# Altium footprint library AMP Footprints.PcbLib: 903 footprints (part 5 of 58)
Each footprint in its own frame and in the unit in brackets; x right, y up, seen from the top. Pads: shape width x height; smd on the part's side, far side on the other; paste and mask are expansions set on the pad; w line width, h text height; cw(c..) or ccw(c..) is an arc to the next point about the centre after c.
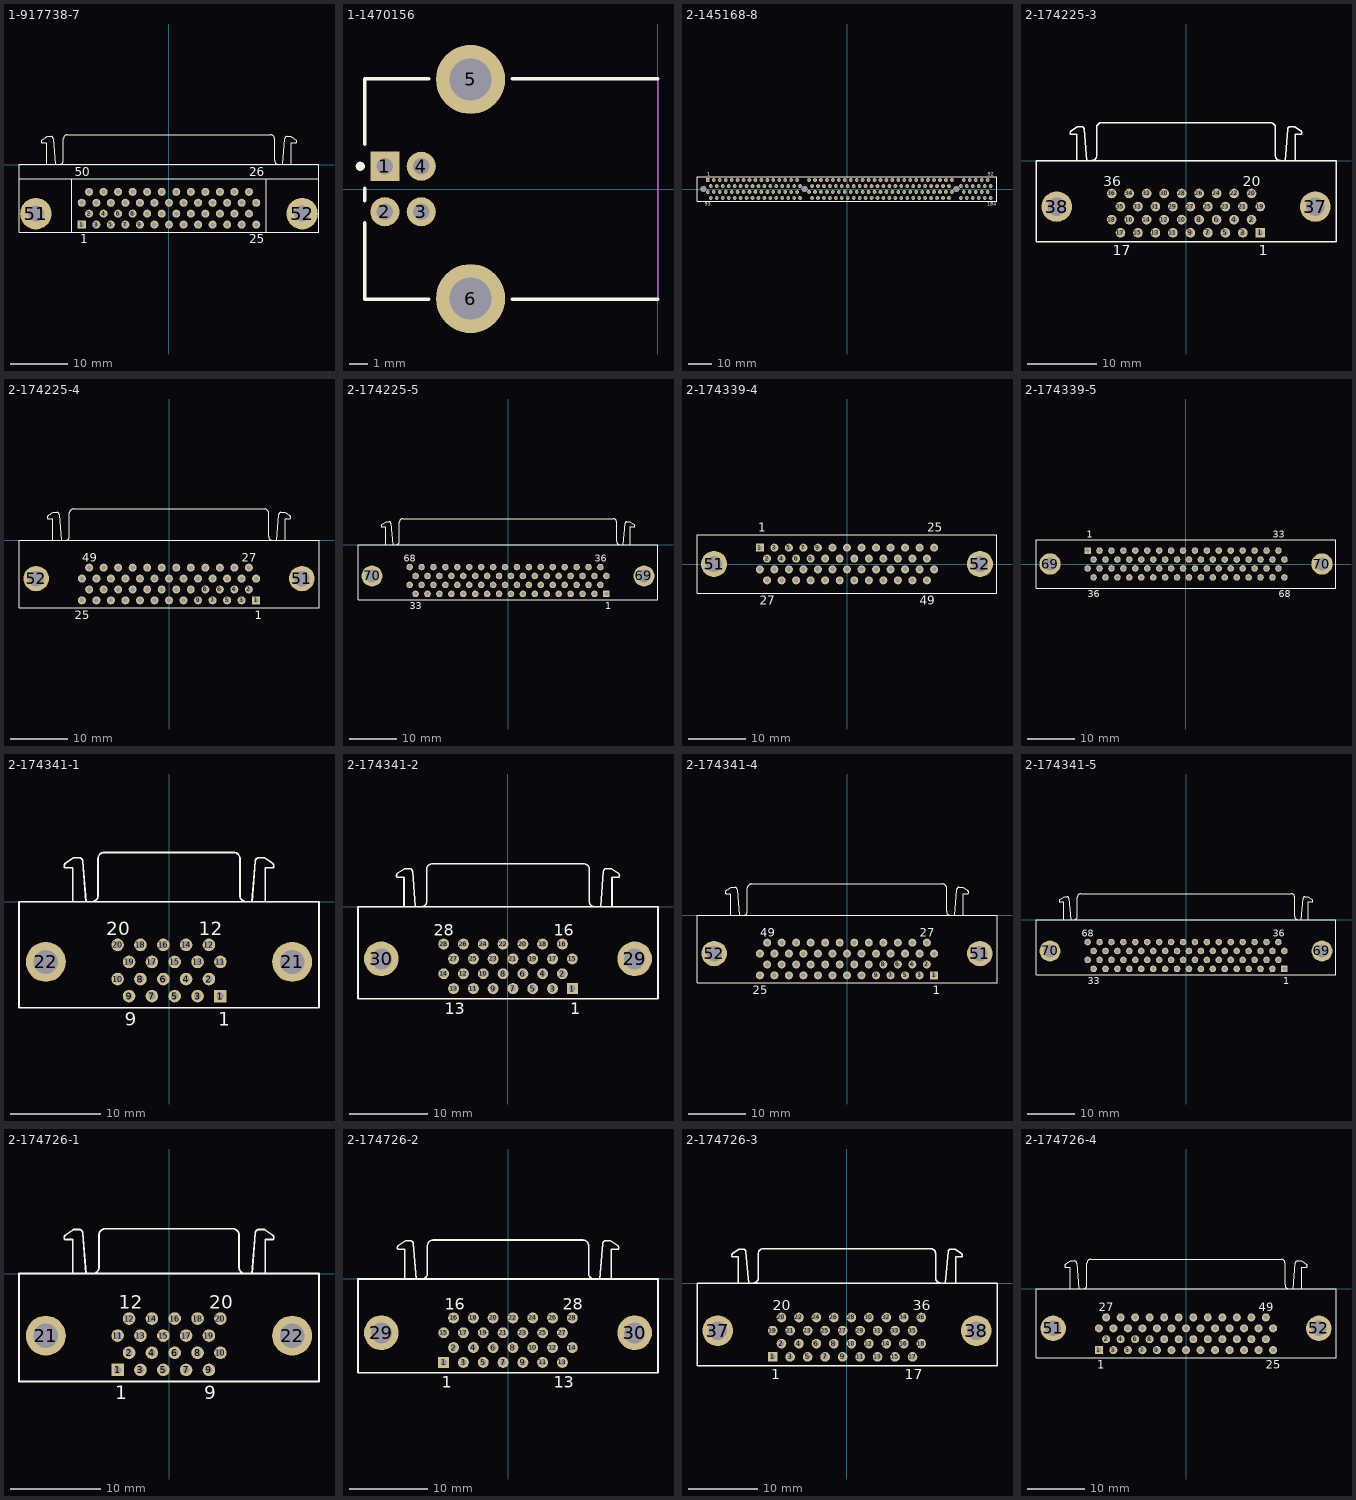
[diagram p4: the footprints below, top view; thin cyan lines are the x and y axes]

## 1-917738-7 [mm] "Connector; CHAMP Miniature Ribbon 050 Series II; 50 Position; Right Angle"
height 9.6
pads (52):
  rect 1.4x1.4 hole 0.8: 1(-15.24,-10.477)
  round 1.4 hole 0.8: 2(-13.97,-8.572) 3(-12.7,-10.477) 4(-11.43,-8.572) 5(-10.16,-10.477) 6(-8.89,-8.572) 7(-7.62,-10.477) 8(-6.35,-8.572) 9(-5.08,-10.477) 10(-3.81,-8.572) 11(-2.54,-10.477) 12(-1.27,-8.572) 13(0,-10.477) 14(1.27,-8.572) 15(2.54,-10.477) 16(3.81,-8.572) 17(5.08,-10.477) 18(6.35,-8.572) 19(7.62,-10.477) 20(8.89,-8.572) 21(10.16,-10.477) 22(11.43,-8.572) 23(12.7,-10.477) 24(13.97,-8.572) 25(15.24,-10.477) 26(15.24,-6.667) 27(13.97,-4.763) 28(12.7,-6.667) 29(11.43,-4.763) 30(10.16,-6.667) 31(8.89,-4.763) 32(7.62,-6.667) 33(6.35,-4.763) 34(5.08,-6.667) 35(3.81,-4.763) 36(2.54,-6.667) 37(1.27,-4.763) 38(0,-6.667) 39(-1.27,-4.763) 40(-2.54,-6.667) 41(-3.81,-4.763) 42(-5.08,-6.667) 43(-6.35,-4.763) 44(-7.62,-6.667) 45(-8.89,-4.763) 46(-10.16,-6.667) 47(-11.43,-4.763) 48(-12.7,-6.667) 49(-13.97,-4.763) 50(-15.24,-6.667)
  round 5.5 hole 2.8: 51(-23.25,-8.572) 52(23.25,-8.572)
Top Overlay:
  lines w0.2: -26.2,-2.478 26.2,-2.478 ; -22.215,4.292 -21.275,4.92 -20.553,4.92 cw(c-20.655,4.523) -20.245,4.523 ; -22.201,4.277 ccw(c-21.975,4.032) -22.225,3.812 -21.345,3.813 -21.345,0.022 ; -20.245,4.543 -19.875,0.022 ; -19.135,0.028 ccw(c-19.135,0.723) -18.44,0.723 -18.44,4.523 ; -18.435,4.527 cw(c-17.74,4.527) -17.74,5.222 17.74,5.222 cw(c17.74,4.527) 18.435,4.527 ; -17,-11.777 -17,-2.558 ; 17,-11.777 17,-2.478 ; 18.44,4.523 18.44,0.723 ccw(c19.135,0.723) 19.135,0.028 ; 19.875,0.022 20.245,4.543 ; 20.245,4.523 cw(c20.655,4.523) 20.553,4.92 21.275,4.92 22.215,4.292 ; 21.345,0.022 21.345,3.812 22.225,3.813 ccw(c21.975,4.032) 22.201,4.277 ; -26.2,-11.777 -26.2,0.022 26.2,0.022 26.2,-11.777 -26.2,-11.777
  text "1" at -15.49,-13.752 h1.5
  text "25" at 13.99,-13.752 h1.5
  text "50" at -16.49,-2.003 h1.5
  text "26" at 13.99,-2.003 h1.5

## 1-1470156 [mm] "Connector; USB1.1, Type B, Thru-Hole; 4 Position; Right Angle"
height 10.95
pads (6):
  rect 1.6x1.6 hole 0.92: 1(-15.01,1.25)
  round 1.6 hole 0.92: 2(-15.01,-1.25) 3(-13.01,-1.25) 4(-13.01,1.25)
  round 3.8 hole 2.3: 5(-10.3,6.02) 6(-10.3,-6.02)
Top Overlay:
  circle w0.25: c-16.36,1.25 r0.125
  lines w0.2: -16.12,-1.85 -16.12,-6.05 -12.6,-6.05 ; -16.12,-0.65 -16.12,0.05 ; -16.12,2.45 -16.12,6.05 -12.6,6.05 ; -8,-6.05 -0.02,-6.05 ; -8,6.05 -0.02,6.05
Mechanical 1:
  lines w0.1: 0,-6.05 0,6.05
  text "PCB Edge" at -0.325,-5.651 h0.25

## 2-145168-8 [mm] "Connector; Card Edge .050 Series PCI; 2x92 Position; 64-Bit Bus"
height 15.74
pads (187):
  rect 1.62x1.62 hole 1.02: 1(-59.372,3.81)
  round 1.62 hole 1.02: 2(-58.102,1.27) 3(-56.832,3.81) 4(-55.562,1.27) 5(-54.292,3.81) 6(-53.023,1.27) 7(-51.752,3.81) 8(-50.482,1.27) 9(-49.212,3.81) 10(-47.942,1.27) 11(-46.672,3.81) 12(-45.402,1.27) 13(-44.133,3.81) 14(-42.862,1.27) 15(-41.593,3.81) 16(-40.322,1.27) 17(-39.052,3.81) 18(-37.782,1.27) 19(-36.512,3.81) 20(-35.242,1.27) 21(-33.972,3.81) 22(-32.703,1.27) 23(-31.432,3.81) 24(-30.162,1.27) 25(-28.892,3.81) 26(-27.622,1.27) 27(-26.352,3.81) 28(-25.082,1.27) 29(-23.812,3.81) 30(-22.543,1.27) 31(-21.273,3.81) 32(-20.002,1.27) 33(-16.192,3.81) 34(-14.922,1.27) 35(-13.652,3.81) 36(-12.383,1.27) 37(-11.112,3.81) 38(-9.842,1.27) 39(-8.572,3.81) 40(-7.302,1.27) 41(-6.032,3.81) 42(-4.763,1.27) 43(-3.492,3.81) 44(-2.222,1.27) 45(-0.953,3.81) 46(0.318,1.27) 47(1.587,3.81) 48(2.857,1.27) 49(4.127,3.81) 50(5.397,1.27) 51(6.667,3.81) 52(7.938,1.27) 53(9.207,3.81) 54(10.477,1.27) 55(11.747,3.81) 56(13.018,1.27) 57(14.287,3.81) 58(15.557,1.27) 59(16.828,3.81) 60(18.098,1.27) 61(19.367,3.81) 62(20.637,1.27) 63(21.907,3.81) 64(23.177,1.27) 65(24.447,3.81) 66(25.717,1.27) 67(26.987,3.81) 68(28.258,1.27) 69(29.527,3.81) 70(30.797,1.27) 71(32.067,3.81) 72(33.337,1.27) 73(34.608,3.81) 74(35.877,1.27) 75(37.148,3.81) 76(38.417,1.27) 77(39.688,3.81) 78(40.957,1.27) 79(42.227,3.81) 80(43.497,1.27) 81(44.767,3.81) 82(48.578,1.27) 83(49.847,3.81) 84(51.117,1.27) 85(52.387,3.81) 86(53.657,1.27) 87(54.927,3.81) 88(56.197,1.27) 89(57.468,3.81) 90(58.737,1.27) 91(60.008,3.81) 92(61.277,1.27) 93(-59.372,-1.27) 94(-58.102,-3.81) 95(-56.832,-1.27) 96(-55.562,-3.81) 97(-54.292,-1.27) 98(-53.023,-3.81) 99(-51.752,-1.27) 100(-50.482,-3.81) 101(-49.212,-1.27) 102(-47.942,-3.81) 103(-46.672,-1.27) 104(-45.402,-3.81) 105(-44.133,-1.27) 106(-42.862,-3.81) 107(-41.593,-1.27) 108(-40.322,-3.81) 109(-39.052,-1.27) 110(-37.782,-3.81) 111(-36.512,-1.27) 112(-35.242,-3.81) 113(-33.972,-1.27) 114(-32.703,-3.81) 115(-31.432,-1.27) 116(-30.162,-3.81) 117(-28.892,-1.27) 118(-27.622,-3.81) 119(-26.352,-1.27) 120(-25.082,-3.81) 121(-23.812,-1.27) 122(-22.543,-3.81) 123(-21.273,-1.27) 124(-20.002,-3.81) 125(-16.192,-1.27) 126(-14.922,-3.81) 127(-13.652,-1.27) 128(-12.383,-3.81) 129(-11.112,-1.27) 130(-9.842,-3.81) 131(-8.572,-1.27) 132(-7.302,-3.81) 133(-6.032,-1.27) 134(-4.763,-3.81) 135(-3.492,-1.27) 136(-2.222,-3.81) 137(-0.953,-1.27) 138(0.318,-3.81) 139(1.587,-1.27) 140(2.857,-3.81) 141(4.127,-1.27) 142(5.397,-3.81) 143(6.667,-1.27) 144(7.938,-3.81) 145(9.207,-1.27) 146(10.477,-3.81) 147(11.747,-1.27) 148(13.018,-3.81) 149(14.287,-1.27) 150(15.557,-3.81) 151(16.828,-1.27) 152(18.098,-3.81) 153(19.367,-1.27) 154(20.637,-3.81) 155(21.907,-1.27) 156(23.177,-3.81) 157(24.447,-1.27) 158(25.717,-3.81) 159(26.987,-1.27) 160(28.258,-3.81) 161(29.527,-1.27) 162(30.797,-3.81) 163(32.067,-1.27) 164(33.337,-3.81) 165(34.608,-1.27) 166(35.877,-3.81) 167(37.148,-1.27) 168(38.417,-3.81) 169(39.688,-1.27) 170(40.957,-3.81) 171(42.227,-1.27) 172(43.497,-3.81) 173(44.767,-1.27) 174(48.578,-3.81) 175(49.847,-1.27) 176(51.117,-3.81) 177(52.387,-1.27) 178(53.657,-3.81) 179(54.927,-1.27) 180(56.197,-3.81) 181(57.468,-1.27) 182(58.737,-3.81) 183(60.008,-1.27) 184(61.277,-3.81)
  round 2.56 hole 2.44: 185(-61.277,0) 186(-18.098,0) 187(46.672,0)
Top Overlay:
  lines w0.2: -64,-5.26 -64,5.26 64,5.26 64,-5.26 -64,-5.26
  text "92" at 60.027,5.735 h1.5
  text "184" at 59.778,-7.235 h1.5
  text "93" at -60.623,-7.235 h1.5
  text "1" at -59.622,5.735 h1.5

## 2-174225-3 [mm] "Connector; D Subminiature 050 Series; 36 Position; Right Angle"
height 10.55
pads (38):
  rect 1.4x1.4 hole 0.8: 1(10.795,-10.5)
  round 1.4 hole 0.8: 2(9.525,-8.595) 3(8.255,-10.5) 4(6.985,-8.595) 5(5.715,-10.5) 6(4.445,-8.595) 7(3.175,-10.5) 8(1.905,-8.595) 9(0.635,-10.5) 10(-0.635,-8.595) 11(-1.905,-10.5) 12(-3.175,-8.595) 13(-4.445,-10.5) 14(-5.715,-8.595) 15(-6.985,-10.5) 16(-8.255,-8.595) 17(-9.525,-10.5) 18(-10.795,-8.595) 19(10.795,-6.69) 20(9.525,-4.785) 21(8.255,-6.69) 22(6.985,-4.785) 23(5.715,-6.69) 24(4.445,-4.785) 25(3.175,-6.69) 26(1.905,-4.785) 27(0.635,-6.69) 28(-0.635,-4.785) 29(-1.905,-6.69) 30(-3.175,-4.785) 31(-4.445,-6.69) 32(-5.715,-4.785) 33(-6.985,-6.69) 34(-8.255,-4.785) 35(-9.525,-6.69) 36(-10.795,-4.785)
  round 4.45 hole 2.7: 37(18.795,-6.69) 38(-18.795,-6.69)
Top Overlay:
  lines w0.2: -16.755,4.27 -15.815,4.898 -15.093,4.898 cw(c-15.195,4.5) -14.785,4.5 ; -16.741,4.255 ccw(c-16.515,4.01) -16.765,3.79 -15.885,3.79 -15.885,0 ; -14.785,4.52 -14.415,0 ; -13.675,0.015 ccw(c-13.675,0.71) -12.98,0.71 -12.98,4.805 cw(c-12.285,4.805) -12.285,5.5 ; -12.275,5.5 12.275,5.5 cw(c12.275,4.805) 12.97,4.805 ; 12.98,4.805 12.98,0.71 ccw(c13.675,0.71) 13.675,0.015 ; 14.405,0 14.775,4.52 ; 14.775,4.5 cw(c15.185,4.5) 15.083,4.898 15.805,4.898 16.745,4.27 ; 15.875,0 15.875,3.79 16.755,3.79 ccw(c16.505,4.01) 16.731,4.255 ; -21.8,-11.8 -21.8,0 21.8,0 21.8,-11.8 -21.8,-11.8
  text "36" at -12.045,-3.71 h1.5
  text "20" at 8.275,-3.71 h1.5
  text "17" at -10.65,-13.775 h1.5
  text "1" at 10.545,-13.775 h1.5

## 2-174225-4 [mm] "Connector; D Subminiature 050 Series; 50 Position; Right Angle"
height 10.55
pads (52):
  rect 1.4x1.4 hole 0.8: 1(15.24,-10.5)
  round 1.4 hole 0.8: 2(13.97,-8.595) 3(12.7,-10.5) 4(11.43,-8.595) 5(10.16,-10.5) 6(8.89,-8.595) 7(7.62,-10.5) 8(6.35,-8.595) 9(5.08,-10.5) 10(3.81,-8.595) 11(2.54,-10.5) 12(1.27,-8.595) 13(0,-10.5) 14(-1.27,-8.595) 15(-2.54,-10.5) 16(-3.81,-8.595) 17(-5.08,-10.5) 18(-6.35,-8.595) 19(-7.62,-10.5) 20(-8.89,-8.595) 21(-10.16,-10.5) 22(-11.43,-8.595) 23(-12.7,-10.5) 24(-13.97,-8.595) 25(-15.24,-10.5) 26(15.24,-6.69) 27(13.97,-4.785) 28(12.7,-6.69) 29(11.43,-4.785) 30(10.16,-6.69) 31(8.89,-4.785) 32(7.62,-6.69) 33(6.35,-4.785) 34(5.08,-6.69) 35(3.81,-4.785) 36(2.54,-6.69) 37(1.27,-4.785) 38(0,-6.69) 39(-1.27,-4.785) 40(-2.54,-6.69) 41(-3.81,-4.785) 42(-5.08,-6.69) 43(-6.35,-4.785) 44(-7.62,-6.69) 45(-8.89,-4.785) 46(-10.16,-6.69) 47(-11.43,-4.785) 48(-12.7,-6.69) 49(-13.97,-4.785) 50(-15.24,-6.69)
  round 4.45 hole 2.7: 51(23.24,-6.69) 52(-23.24,-6.69)
Top Overlay:
  lines w0.2: -21.21,4.27 -20.27,4.898 -19.548,4.898 cw(c-19.65,4.5) -19.24,4.5 ; -21.196,4.255 ccw(c-20.97,4.01) -21.22,3.79 -20.34,3.79 -20.34,0 ; -19.24,4.52 -18.87,0 ; -18.13,0.005 ccw(c-18.13,0.7) -17.435,0.7 -17.435,4.805 ; -17.425,4.805 cw(c-16.73,4.805) -16.73,5.5 16.73,5.5 cw(c16.73,4.805) 17.425,4.805 ; 17.415,4.805 17.415,0.7 ccw(c18.11,0.7) 18.11,0.005 ; 18.85,0 19.22,4.52 ; 19.22,4.5 cw(c19.63,4.5) 19.528,4.898 20.25,4.898 21.19,4.27 ; 20.32,0 20.32,3.79 21.2,3.79 ccw(c20.95,4.01) 21.176,4.255 ; -26.25,-11.8 -26.25,0 26.25,0 26.25,-11.8 -26.25,-11.8
  text "25" at -16.49,-13.775 h1.5
  text "27" at 12.72,-3.71 h1.5
  text "1" at 14.99,-13.775 h1.5
  text "49" at -15.22,-3.71 h1.5

## 2-174225-5 [mm] "Connector; D Subminiature 050 Series; 68 Position; Right Angle"
height 10.55
pads (70):
  rect 1.4x1.4 hole 0.8: 1(20.955,-10.5)
  round 1.4 hole 0.8: 2(19.685,-8.595) 3(18.415,-10.5) 4(17.145,-8.595) 5(15.875,-10.5) 6(14.605,-8.595) 7(13.335,-10.5) 8(12.065,-8.595) 9(10.795,-10.5) 10(9.525,-8.595) 11(8.255,-10.5) 12(6.985,-8.595) 13(5.715,-10.5) 14(4.445,-8.595) 15(3.175,-10.5) 16(1.905,-8.595) 17(0.635,-10.5) 18(-0.635,-8.595) 19(-1.905,-10.5) 20(-3.175,-8.595) 21(-4.445,-10.5) 22(-5.715,-8.595) 23(-6.985,-10.5) 24(-8.255,-8.595) 25(-9.525,-10.5) 26(-10.795,-8.595) 27(-12.065,-10.5) 28(-13.335,-8.595) 29(-14.605,-10.5) 30(-15.875,-8.595) 31(-17.145,-10.5) 32(-18.415,-8.595) 33(-19.685,-10.5) 34(-20.955,-8.595) 35(20.955,-6.69) 36(19.685,-4.785) 37(18.415,-6.69) 38(17.145,-4.785) 39(15.875,-6.69) 40(14.605,-4.785) 41(13.335,-6.69) 42(12.065,-4.785) 43(10.795,-6.69) 44(9.525,-4.785) 45(8.255,-6.69) 46(6.985,-4.785) 47(5.715,-6.69) 48(4.445,-4.785) 49(3.175,-6.69) 50(1.905,-4.785) 51(0.635,-6.69) 52(-0.635,-4.785) 53(-1.905,-6.69) 54(-3.175,-4.785) 55(-4.445,-6.69) 56(-5.715,-4.785) 57(-6.985,-6.69) 58(-8.255,-4.785) 59(-9.525,-6.69) 60(-10.795,-4.785) 61(-12.065,-6.69) 62(-13.335,-4.785) 63(-14.605,-6.69) 64(-15.875,-4.785) 65(-17.145,-6.69) 66(-18.415,-4.785) 67(-19.685,-6.69) 68(-20.955,-4.785)
  round 4.45 hole 2.7: 69(28.955,-6.69) 70(-28.955,-6.69)
Top Overlay:
  lines w0.2: -26.915,4.27 -25.975,4.898 -25.253,4.898 cw(c-25.355,4.5) -24.945,4.5 ; -26.901,4.255 ccw(c-26.675,4.01) -26.925,3.79 -26.045,3.79 -26.045,0 ; -24.945,4.52 -24.575,0 ; -23.835,0.005 ccw(c-23.835,0.7) -23.14,0.7 -23.14,4.805 cw(c-22.445,4.805) -22.445,5.5 22.445,5.5 cw(c22.445,4.805) 23.14,4.805 23.14,0.7 ccw(c23.835,0.7) 23.835,0.005 ; 24.575,0 24.945,4.52 ; 24.945,4.5 cw(c25.355,4.5) 25.253,4.898 25.975,4.898 26.915,4.27 ; 26.045,0 26.045,3.79 26.925,3.79 ccw(c26.675,4.01) 26.901,4.255 ; -31.95,-11.8 31.95,-11.8 31.95,0 -31.95,0 -31.95,-11.8
  text "36" at 18.435,-3.71 h1.5
  text "68" at -22.205,-3.71 h1.5
  text "33" at -20.935,-13.775 h1.5
  text "1" at 20.705,-13.775 h1.5

## 2-174339-4 [mm] "Connector; D Subminiature 050 Series; 50 Position; Vertical"
height 9.5
pads (52):
  rect 1.4x1.4 hole 0.8: 1(-15.24,2.857)
  round 1.4 hole 0.8: 2(-13.97,0.953) 3(-12.7,2.857) 4(-11.43,0.953) 5(-10.16,2.857) 6(-8.89,0.953) 7(-7.62,2.857) 8(-6.35,0.953) 9(-5.08,2.857) 10(-3.81,0.953) 11(-2.54,2.857) 12(-1.27,0.953) 13(0,2.857) 14(1.27,0.953) 15(2.54,2.857) 16(3.81,0.953) 17(5.08,2.857) 18(6.35,0.953) 19(7.62,2.857) 20(8.89,0.953) 21(10.16,2.857) 22(11.43,0.953) 23(12.7,2.857) 24(13.97,0.953) 25(15.24,2.857) 26(-15.24,-0.953) 27(-13.97,-2.857) 28(-12.7,-0.953) 29(-11.43,-2.857) 30(-10.16,-0.953) 31(-8.89,-2.857) 32(-7.62,-0.953) 33(-6.35,-2.857) 34(-5.08,-0.953) 35(-3.81,-2.857) 36(-2.54,-0.953) 37(-1.27,-2.857) 38(0,-0.953) 39(1.27,-2.857) 40(2.54,-0.953) 41(3.81,-2.857) 42(5.08,-0.953) 43(6.35,-2.857) 44(7.62,-0.953) 45(8.89,-2.857) 46(10.16,-0.953) 47(11.43,-2.857) 48(12.7,-0.953) 49(13.97,-2.857) 50(15.24,-0.953)
  round 4.55 hole 2.77: 51(-23.24,0) 52(23.24,0)
Top Overlay:
  lines w0.2: -26.225,-5.155 26.225,-5.155 26.225,5.155 -26.225,5.155 -26.225,-5.155
  text "1" at -15.49,5.63 h1.5
  text "25" at 13.99,5.63 h1.5
  text "27" at -15.22,-7.13 h1.5
  text "49" at 12.72,-7.13 h1.5

## 2-174339-5 [mm] "Connector; D Subminiature 050 Series; 68 Position; Vertical"
height 9.5
pads (70):
  rect 1.4x1.4 hole 0.8: 1(-20.955,2.857)
  round 1.4 hole 0.8: 2(-19.685,0.953) 3(-18.415,2.857) 4(-17.145,0.953) 5(-15.875,2.857) 6(-14.605,0.953) 7(-13.335,2.857) 8(-12.065,0.953) 9(-10.795,2.857) 10(-9.525,0.953) 11(-8.255,2.857) 12(-6.985,0.953) 13(-5.715,2.857) 14(-4.445,0.953) 15(-3.175,2.857) 16(-1.905,0.953) 17(-0.635,2.857) 18(0.635,0.953) 19(1.905,2.857) 20(3.175,0.953) 21(4.445,2.857) 22(5.715,0.953) 23(6.985,2.857) 24(8.255,0.953) 25(9.525,2.857) 26(10.795,0.953) 27(12.065,2.857) 28(13.335,0.953) 29(14.605,2.857) 30(15.875,0.953) 31(17.145,2.857) 32(18.415,0.953) 33(19.685,2.857) 34(20.955,0.953) 35(-20.955,-0.953) 36(-19.685,-2.857) 37(-18.415,-0.953) 38(-17.145,-2.857) 39(-15.875,-0.953) 40(-14.605,-2.857) 41(-13.335,-0.953) 42(-12.065,-2.857) 43(-10.795,-0.953) 44(-9.525,-2.857) 45(-8.255,-0.953) 46(-6.985,-2.857) 47(-5.715,-0.953) 48(-4.445,-2.857) 49(-3.175,-0.953) 50(-1.905,-2.857) 51(-0.635,-0.953) 52(0.635,-2.857) 53(1.905,-0.953) 54(3.175,-2.857) 55(4.445,-0.953) 56(5.715,-2.857) 57(6.985,-0.953) 58(8.255,-2.857) 59(9.525,-0.953) 60(10.795,-2.857) 61(12.065,-0.953) 62(13.335,-2.857) 63(14.605,-0.953) 64(15.875,-2.857) 65(17.145,-0.953) 66(18.415,-2.857) 67(19.685,-0.953) 68(20.955,-2.857)
  round 4.55 hole 2.77: 69(-28.955,0) 70(28.955,0)
Top Overlay:
  lines w0.2: -31.94,-5.155 -31.94,5.155 31.94,5.155 31.94,-5.155 -31.94,-5.155
  text "36" at -20.935,-7.13 h1.5
  text "68" at 19.705,-7.13 h1.5
  text "1" at -21.154,5.63 h1.5
  text "33" at 18.435,5.63 h1.5

## 2-174341-1 [mm] "Connector; D Subminiature 050 Series; 20 Position; Right Angle"
height 10.55
pads (22):
  rect 1.4x1.4 hole 0.8: 1(5.715,-10.5)
  round 1.4 hole 0.8: 2(4.445,-8.595) 3(3.175,-10.5) 4(1.905,-8.595) 5(0.635,-10.5) 6(-0.635,-8.595) 7(-1.905,-10.5) 8(-3.175,-8.595) 9(-4.445,-10.5) 10(-5.715,-8.595) 11(5.715,-6.69) 12(4.445,-4.785) 13(3.175,-6.69) 14(1.905,-4.785) 15(0.635,-6.69) 16(-0.635,-4.785) 17(-1.905,-6.69) 18(-3.175,-4.785) 19(-4.445,-6.69) 20(-5.715,-4.785)
  round 4.45 hole 2.7: 21(13.715,-6.69) 22(-13.715,-6.69)
Top Overlay:
  lines w0.2: -11.575,4.27 -10.635,4.898 -9.913,4.898 cw(c-10.015,4.5) -9.605,4.5 ; -11.561,4.255 ccw(c-11.335,4.01) -11.585,3.79 -10.705,3.79 -10.705,0 ; -9.605,4.52 -9.235,0 ; -8.595,0.005 ccw(c-8.595,0.7) -7.9,0.7 -7.9,4.805 cw(c-7.205,4.805) -7.205,5.5 7.205,5.5 cw(c7.205,4.805) 7.9,4.805 7.9,0.7 ccw(c8.595,0.7) 8.595,0.005 ; 9.235,0 9.605,4.52 ; 9.605,4.5 cw(c10.015,4.5) 9.913,4.898 10.635,4.898 11.575,4.27 ; 10.705,0 10.705,3.79 11.585,3.79 ccw(c11.335,4.01) 11.561,4.255 ; -16.7,-11.8 -16.7,0 16.7,0 16.7,-11.8 -16.7,-11.8
  text "20" at -6.965,-3.71 h1.5
  text "12" at 3.32,-3.71 h1.5
  text "9" at -4.945,-13.775 h1.5
  text "1" at 5.465,-13.775 h1.5

## 2-174341-2 [mm] "Connector; D Subminiature 050 Series; 28 Position; Right Angle"
height 10.55
pads (30):
  rect 1.4x1.4 hole 0.8: 1(8.255,-10.5)
  round 1.4 hole 0.8: 2(6.985,-8.595) 3(5.715,-10.5) 4(4.445,-8.595) 5(3.175,-10.5) 6(1.905,-8.595) 7(0.635,-10.5) 8(-0.635,-8.595) 9(-1.905,-10.5) 10(-3.175,-8.595) 11(-4.445,-10.5) 12(-5.715,-8.595) 13(-6.985,-10.5) 14(-8.255,-8.595) 15(8.255,-6.69) 16(6.985,-4.785) 17(5.715,-6.69) 18(4.445,-4.785) 19(3.175,-6.69) 20(1.905,-4.785) 21(0.635,-6.69) 22(-0.635,-4.785) 23(-1.905,-6.69) 24(-3.175,-4.785) 25(-4.445,-6.69) 26(-5.715,-4.785) 27(-6.985,-6.69) 28(-8.255,-4.785)
  round 4.45 hole 2.7: 29(16.255,-6.69) 30(-16.255,-6.69)
Top Overlay:
  lines w0.2: -14.22,4.27 -13.28,4.898 -12.558,4.898 cw(c-12.66,4.5) -12.25,4.5 ; -14.206,4.255 ccw(c-13.98,4.01) -14.23,3.79 -13.35,3.79 -13.35,0 ; -12.25,4.52 -11.88,0 ; -11.135,0.005 ccw(c-11.135,0.7) -10.44,0.7 -10.44,4.805 cw(c-9.745,4.805) -9.745,5.5 9.745,5.5 cw(c9.745,4.805) 10.44,4.805 10.44,0.7 ccw(c11.135,0.7) 11.135,0.005 ; 11.875,0 12.245,4.52 ; 12.245,4.5 cw(c12.655,4.5) 12.553,4.898 13.275,4.898 14.215,4.27 ; 13.345,0 13.345,3.79 14.225,3.79 ccw(c13.975,4.01) 14.201,4.255 ; -19.25,-11.8 -19.25,0 19.25,0 19.25,-11.8 -19.25,-11.8
  text "16" at 5.86,-3.71 h1.5
  text "28" at -9.505,-3.71 h1.5
  text "1" at 8.005,-13.775 h1.5
  text "13" at -8.11,-13.775 h1.5

## 2-174341-4 [mm] "Connector; D Subminiature 050 Series; 50 Position; Right Angle"
height 10.55
pads (52):
  rect 1.4x1.4 hole 0.8: 1(15.24,-10.5)
  round 1.4 hole 0.8: 2(13.97,-8.595) 3(12.7,-10.5) 4(11.43,-8.595) 5(10.16,-10.5) 6(8.89,-8.595) 7(7.62,-10.5) 8(6.35,-8.595) 9(5.08,-10.5) 10(3.81,-8.595) 11(2.54,-10.5) 12(1.27,-8.595) 13(0,-10.5) 14(-1.27,-8.595) 15(-2.54,-10.5) 16(-3.81,-8.595) 17(-5.08,-10.5) 18(-6.35,-8.595) 19(-7.62,-10.5) 20(-8.89,-8.595) 21(-10.16,-10.5) 22(-11.43,-8.595) 23(-12.7,-10.5) 24(-13.97,-8.595) 25(-15.24,-10.5) 26(15.24,-6.69) 27(13.97,-4.785) 28(12.7,-6.69) 29(11.43,-4.785) 30(10.16,-6.69) 31(8.89,-4.785) 32(7.62,-6.69) 33(6.35,-4.785) 34(5.08,-6.69) 35(3.81,-4.785) 36(2.54,-6.69) 37(1.27,-4.785) 38(0,-6.69) 39(-1.27,-4.785) 40(-2.54,-6.69) 41(-3.81,-4.785) 42(-5.08,-6.69) 43(-6.35,-4.785) 44(-7.62,-6.69) 45(-8.89,-4.785) 46(-10.16,-6.69) 47(-11.43,-4.785) 48(-12.7,-6.69) 49(-13.97,-4.785) 50(-15.24,-6.69)
  round 4.45 hole 2.7: 51(23.24,-6.69) 52(-23.24,-6.69)
Top Overlay:
  lines w0.2: -21.21,4.27 -20.27,4.898 -19.548,4.898 cw(c-19.65,4.5) -19.24,4.5 ; -21.196,4.255 ccw(c-20.97,4.01) -21.22,3.79 -20.34,3.79 -20.34,0 ; -19.24,4.52 -18.87,0 ; -18.13,0.005 ccw(c-18.13,0.7) -17.435,0.7 -17.435,4.805 ; -17.425,4.805 cw(c-16.73,4.805) -16.73,5.5 16.73,5.5 cw(c16.73,4.805) 17.425,4.805 ; 17.415,4.805 17.415,0.7 ccw(c18.11,0.7) 18.11,0.005 ; 18.85,0 19.22,4.52 ; 19.22,4.5 cw(c19.63,4.5) 19.528,4.898 20.25,4.898 21.19,4.27 ; 20.32,0 20.32,3.79 21.2,3.79 ccw(c20.95,4.01) 21.176,4.255 ; -26.25,-11.8 -26.25,0 26.25,0 26.25,-11.8 -26.25,-11.8
  text "25" at -16.49,-13.775 h1.5
  text "27" at 12.72,-3.71 h1.5
  text "1" at 14.99,-13.775 h1.5
  text "49" at -15.22,-3.71 h1.5

## 2-174341-5 [mm] "Connector; D Subminiature 050 Series; 68 Position; Right Angle"
height 10.55
pads (70):
  rect 1.4x1.4 hole 0.8: 1(20.955,-10.5)
  round 1.4 hole 0.8: 2(19.685,-8.595) 3(18.415,-10.5) 4(17.145,-8.595) 5(15.875,-10.5) 6(14.605,-8.595) 7(13.335,-10.5) 8(12.065,-8.595) 9(10.795,-10.5) 10(9.525,-8.595) 11(8.255,-10.5) 12(6.985,-8.595) 13(5.715,-10.5) 14(4.445,-8.595) 15(3.175,-10.5) 16(1.905,-8.595) 17(0.635,-10.5) 18(-0.635,-8.595) 19(-1.905,-10.5) 20(-3.175,-8.595) 21(-4.445,-10.5) 22(-5.715,-8.595) 23(-6.985,-10.5) 24(-8.255,-8.595) 25(-9.525,-10.5) 26(-10.795,-8.595) 27(-12.065,-10.5) 28(-13.335,-8.595) 29(-14.605,-10.5) 30(-15.875,-8.595) 31(-17.145,-10.5) 32(-18.415,-8.595) 33(-19.685,-10.5) 34(-20.955,-8.595) 35(20.955,-6.69) 36(19.685,-4.785) 37(18.415,-6.69) 38(17.145,-4.785) 39(15.875,-6.69) 40(14.605,-4.785) 41(13.335,-6.69) 42(12.065,-4.785) 43(10.795,-6.69) 44(9.525,-4.785) 45(8.255,-6.69) 46(6.985,-4.785) 47(5.715,-6.69) 48(4.445,-4.785) 49(3.175,-6.69) 50(1.905,-4.785) 51(0.635,-6.69) 52(-0.635,-4.785) 53(-1.905,-6.69) 54(-3.175,-4.785) 55(-4.445,-6.69) 56(-5.715,-4.785) 57(-6.985,-6.69) 58(-8.255,-4.785) 59(-9.525,-6.69) 60(-10.795,-4.785) 61(-12.065,-6.69) 62(-13.335,-4.785) 63(-14.605,-6.69) 64(-15.875,-4.785) 65(-17.145,-6.69) 66(-18.415,-4.785) 67(-19.685,-6.69) 68(-20.955,-4.785)
  round 4.45 hole 2.7: 69(28.955,-6.69) 70(-28.955,-6.69)
Top Overlay:
  lines w0.2: -26.915,4.27 -25.975,4.898 -25.253,4.898 cw(c-25.355,4.5) -24.945,4.5 ; -26.901,4.255 ccw(c-26.675,4.01) -26.925,3.79 -26.045,3.79 -26.045,0 ; -24.945,4.52 -24.575,0 ; -23.835,0.005 ccw(c-23.835,0.7) -23.14,0.7 -23.14,4.805 cw(c-22.445,4.805) -22.445,5.5 22.445,5.5 cw(c22.445,4.805) 23.14,4.805 23.14,0.7 ccw(c23.835,0.7) 23.835,0.005 ; 24.575,0 24.945,4.52 ; 24.945,4.5 cw(c25.355,4.5) 25.253,4.898 25.975,4.898 26.915,4.27 ; 26.045,0 26.045,3.79 26.925,3.79 ccw(c26.675,4.01) 26.901,4.255 ; -31.95,-11.8 31.95,-11.8 31.95,0 -31.95,0 -31.95,-11.8
  text "36" at 18.435,-3.71 h1.5
  text "68" at -22.205,-3.71 h1.5
  text "33" at -20.935,-13.775 h1.5
  text "1" at 20.705,-13.775 h1.5

## 2-174726-1 [mm] "Connector; D Subminiature 050 Series; 20 Position; Right Angle"
height 10.55
pads (22):
  rect 1.4x1.4 hole 0.8: 1(-5.715,-10.715)
  round 1.4 hole 0.8: 2(-4.445,-8.81) 3(-3.175,-10.715) 4(-1.905,-8.81) 5(-0.635,-10.715) 6(0.635,-8.81) 7(1.905,-10.715) 8(3.175,-8.81) 9(4.445,-10.715) 10(5.715,-8.81) 11(-5.715,-6.905) 12(-4.445,-5) 13(-3.175,-6.905) 14(-1.905,-5) 15(-0.635,-6.905) 16(0.635,-5) 17(1.905,-6.905) 18(3.175,-5) 19(4.445,-6.905) 20(5.715,-5)
  round 4.45 hole 2.7: 21(-13.715,-6.905) 22(13.715,-6.905)
Top Overlay:
  lines w0.2: -11.575,4.27 -10.635,4.898 -9.913,4.898 cw(c-10.015,4.5) -9.605,4.5 ; -11.561,4.255 ccw(c-11.335,4.01) -11.585,3.79 -10.705,3.79 -10.705,0 ; -9.605,4.52 -9.235,0 ; -8.495,0.005 ccw(c-8.495,0.7) -7.8,0.7 -7.8,4.3 cw(c-7.105,4.3) -7.105,4.995 ; -7.105,5 7.105,5 ; 7.105,4.995 cw(c7.105,4.3) 7.8,4.3 7.8,0.7 ccw(c8.495,0.7) 8.495,0.005 ; 9.235,0 9.605,4.52 ; 9.605,4.5 cw(c10.015,4.5) 9.913,4.898 10.635,4.898 11.575,4.27 ; 10.705,0 10.705,3.79 11.585,3.79 ccw(c11.335,4.01) 11.561,4.255 ; -16.7,-12.015 -16.7,0 16.7,0 16.7,-12.015 -16.7,-12.015
  text "20" at 4.465,-3.925 h1.5
  text "12" at -5.57,-3.925 h1.5
  text "9" at 3.945,-13.99 h1.5
  text "1" at -5.965,-13.99 h1.5

## 2-174726-2 [mm] "Connector; D Subminiature 050 Series; 28 Position; Right Angle"
height 10.55
pads (30):
  rect 1.4x1.4 hole 0.8: 1(-8.255,-10.715)
  round 1.4 hole 0.8: 2(-6.985,-8.81) 3(-5.715,-10.715) 4(-4.445,-8.81) 5(-3.175,-10.715) 6(-1.905,-8.81) 7(-0.635,-10.715) 8(0.635,-8.81) 9(1.905,-10.715) 10(3.175,-8.81) 11(4.445,-10.715) 12(5.715,-8.81) 13(6.985,-10.715) 14(8.255,-8.81) 15(-8.255,-6.905) 16(-6.985,-5) 17(-5.715,-6.905) 18(-4.445,-5) 19(-3.175,-6.905) 20(-1.905,-5) 21(-0.635,-6.905) 22(0.635,-5) 23(1.905,-6.905) 24(3.175,-5) 25(4.445,-6.905) 26(5.715,-5) 27(6.985,-6.905) 28(8.255,-5)
  round 4.45 hole 2.7: 29(-16.255,-6.905) 30(16.255,-6.905)
Top Overlay:
  lines w0.2: -14.115,4.27 -13.175,4.898 -12.453,4.898 cw(c-12.555,4.5) -12.145,4.5 ; -14.101,4.255 ccw(c-13.875,4.01) -14.125,3.79 -13.245,3.79 -13.245,0 ; -12.145,4.52 -11.775,0 ; -11.035,0.005 ccw(c-11.035,0.7) -10.34,0.7 -10.34,4.305 ; -10.335,4.305 cw(c-9.64,4.305) -9.64,5 9.645,5 cw(c9.645,4.305) 10.34,4.305 10.34,0.7 ccw(c11.035,0.7) 11.035,0.005 ; 11.78,0 12.15,4.52 ; 12.15,4.5 cw(c12.56,4.5) 12.458,4.898 13.18,4.898 14.12,4.27 ; 13.25,0 13.25,3.79 14.13,3.79 ccw(c13.88,4.01) 14.106,4.255 ; -19.25,-12.015 -19.25,0 19.25,0 19.25,-12.015 -19.25,-12.015
  text "16" at -8.11,-3.925 h1.5
  text "28" at 7.005,-3.925 h1.5
  text "1" at -8.505,-13.99 h1.5
  text "13" at 5.86,-13.99 h1.5

## 2-174726-3 [mm] "Connector; D Subminiature 050 Series; 36 Position; Right Angle"
height 10.55
pads (38):
  rect 1.4x1.4 hole 0.8: 1(-10.795,-10.715)
  round 1.4 hole 0.8: 2(-9.525,-8.81) 3(-8.255,-10.715) 4(-6.985,-8.81) 5(-5.715,-10.715) 6(-4.445,-8.81) 7(-3.175,-10.715) 8(-1.905,-8.81) 9(-0.635,-10.715) 10(0.635,-8.81) 11(1.905,-10.715) 12(3.175,-8.81) 13(4.445,-10.715) 14(5.715,-8.81) 15(6.985,-10.715) 16(8.255,-8.81) 17(9.525,-10.715) 18(10.795,-8.81) 19(-10.795,-6.905) 20(-9.525,-5) 21(-8.255,-6.905) 22(-6.985,-5) 23(-5.715,-6.905) 24(-4.445,-5) 25(-3.175,-6.905) 26(-1.905,-5) 27(-0.635,-6.905) 28(0.635,-5) 29(1.905,-6.905) 30(3.175,-5) 31(4.445,-6.905) 32(5.715,-5) 33(6.985,-6.905) 34(8.255,-5) 35(9.525,-6.905) 36(10.795,-5)
  round 4.45 hole 2.7: 37(-18.8,-6.905) 38(18.8,-6.905)
Top Overlay:
  lines w0.2: -16.655,4.28 -15.715,4.908 -14.993,4.908 cw(c-15.095,4.51) -14.685,4.51 ; -16.641,4.265 ccw(c-16.415,4.02) -16.665,3.8 -15.785,3.8 -15.785,0.01 ; -14.685,4.53 -14.315,0.01 ; -13.585,0.025 ccw(c-13.585,0.72) -12.89,0.72 ; -12.88,0.72 -12.88,4.31 cw(c-12.185,4.31) -12.185,5.005 ; -12.185,5 12.185,5 ; 12.175,5.005 cw(c12.175,4.31) 12.87,4.31 ; 12.88,4.31 12.88,0.72 ccw(c13.575,0.72) 13.575,0.025 ; 14.315,0.01 14.685,4.53 ; 14.685,4.51 cw(c15.095,4.51) 14.993,4.908 15.715,4.908 16.655,4.28 ; 15.785,0.01 15.785,3.8 16.665,3.8 ccw(c16.415,4.02) 16.641,4.265 ; -21.8,-12.015 21.8,-12.015 21.8,0 -21.8,0 -21.8,-12.015
  text "1" at -11.045,-13.99 h1.5
  text "17" at 8.4,-13.99 h1.5
  text "20" at -10.775,-3.925 h1.5
  text "36" at 9.545,-3.925 h1.5

## 2-174726-4 [mm] "Connector; D Subminiature 050 Series; 50 Position; Right Angle"
height 10.55
pads (52):
  rect 1.4x1.4 hole 0.8: 1(-15.24,-10.71)
  round 1.4 hole 0.8: 2(-13.97,-8.805) 3(-12.7,-10.71) 4(-11.43,-8.805) 5(-10.16,-10.71) 6(-8.89,-8.805) 7(-7.62,-10.71) 8(-6.35,-8.805) 9(-5.08,-10.71) 10(-3.81,-8.805) 11(-2.54,-10.71) 12(-1.27,-8.805) 13(0,-10.71) 14(1.27,-8.805) 15(2.54,-10.71) 16(3.81,-8.805) 17(5.08,-10.71) 18(6.35,-8.805) 19(7.62,-10.71) 20(8.89,-8.805) 21(10.16,-10.71) 22(11.43,-8.805) 23(12.7,-10.71) 24(13.97,-8.805) 25(15.24,-10.71) 26(-15.24,-6.9) 27(-13.97,-4.995) 28(-12.7,-6.9) 29(-11.43,-4.995) 30(-10.16,-6.9) 31(-8.89,-4.995) 32(-7.62,-6.9) 33(-6.35,-4.995) 34(-5.08,-6.9) 35(-3.81,-4.995) 36(-2.54,-6.9) 37(-1.27,-4.995) 38(0,-6.9) 39(1.27,-4.995) 40(2.54,-6.9) 41(3.81,-4.995) 42(5.08,-6.9) 43(6.35,-4.995) 44(7.62,-6.9) 45(8.89,-4.995) 46(10.16,-6.9) 47(11.43,-4.995) 48(12.7,-6.9) 49(13.97,-4.995) 50(15.24,-6.9)
  round 4.45 hole 2.7: 51(-23.24,-6.9) 52(23.24,-6.9)
Top Overlay:
  lines w0.2: -21.1,4.27 -20.16,4.898 -19.438,4.898 cw(c-19.54,4.5) -19.13,4.5 ; -21.086,4.255 ccw(c-20.86,4.01) -21.11,3.79 -20.23,3.79 -20.23,0 ; -19.13,4.52 -18.76,0 ; -18.02,0.005 ccw(c-18.02,0.7) -17.325,0.7 -17.325,4.5 ; -17.32,4.505 cw(c-16.625,4.505) -16.625,5.2 16.625,5.2 cw(c16.625,4.505) 17.32,4.505 ; 17.325,4.5 17.325,0.7 ccw(c18.02,0.7) 18.02,0.005 ; 18.76,0 19.13,4.52 ; 19.13,4.5 cw(c19.54,4.5) 19.438,4.898 20.16,4.898 21.1,4.27 ; 20.23,0 20.23,3.79 21.11,3.79 ccw(c20.86,4.01) 21.086,4.255 ; -26.24,-12.01 -26.24,0 26.24,0 26.24,-12.01 -26.24,-12.01
  text "1" at -15.49,-13.985 h1.5
  text "25" at 13.99,-13.985 h1.5
  text "27" at -15.22,-3.92 h1.5
  text "49" at 12.72,-3.92 h1.5